# Altium footprint library DFM_Features.PcbLib: 2 footprints
Each footprint in its own frame and in the unit in brackets; x right, y up, seen from the top. Pads: shape width x height; smd on the part's side, far side on the other; paste and mask are expansions set on the pad; w line width, h text height; cw(c..) or ccw(c..) is an arc to the next point about the centre after c.
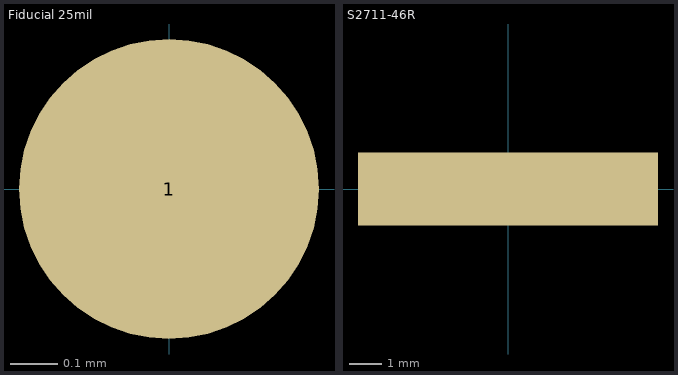
[diagram p0: the footprints below, top view; thin cyan lines are the x and y axes]

## Fiducial 25mil [mil]
pads (1):
  round 25 smd mask+1.18: 1(0,0)

## S2711-46R [mm]
pads (1):
  rect 9.4x2.28 smd: ""(0,0)
3D body "s2711-46r.stp": height 3.46, standoff 0.01, extent -4.495,-1.14 4.494,1.14